# Altium footprint library PcbLib1.PcbLib: 21 footprints (part 2 of 2)
Each footprint in its own frame and in the unit in brackets; x right, y up, seen from the top. Pads: shape width x height; smd on the part's side, far side on the other; paste and mask are expansions set on the pad; w line width, h text height; cw(c..) or ccw(c..) is an arc to the next point about the centre after c.
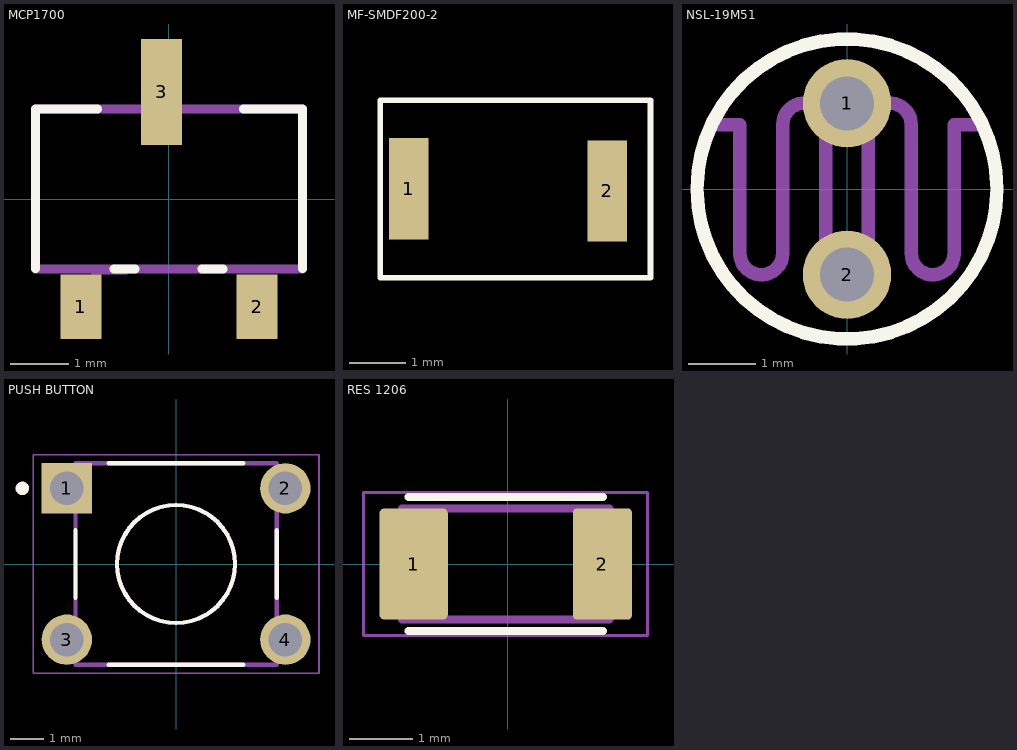
[diagram p1: the footprints below, top view; thin cyan lines are the x and y axes]

## MCP1700 [mm]
pads (3):
  rect 0.7x1.1 smd: 1(-1.5,-1.827) 2(1.5,-1.827)
  rect 0.7x1.8 smd paste-2 mask+0: 3(-0.127,1.827)
Top Overlay:
  lines w0.152: -2.272,-1.18 -2.272,1.533 -1.214,1.533 ; -0.936,-1.188 -0.578,-1.188 ; 0.564,-1.188 0.922,-1.188 ; 1.264,1.533 2.272,1.533 2.272,-1.18
Mechanical 13:
  lines w0: -1.321,-1.271 -0.711,-1.271
  lines w0.152: 2.272,-1.188 -2.272,-1.188 -2.272,1.533 2.272,1.533

## MF-SMDF200-2 [mm]
pads (2):
  rect 0.7x1.8 smd paste-2 mask+0: 1(-381.775,29.181) 2(-378.246,29.14)
Top Overlay:
  lines w0.1: -382.282,27.601 -382.282,30.56 -382.282,30.748 -377.479,30.748 -377.479,30.284 -377.479,27.601 -382.282,27.601

## NSL-19M51 [mm]
pads (2):
  round 1.308 hole 0.8: 1(0,1.27) 2(0,-1.27)
Top Overlay:
  circle w0.2: c0,0 r2.222
Mechanical 13:
  lines w0.2: -1.905,0.953 -1.587,0.953 -1.587,-0.953 ccw(c-1.27,-0.953) -0.953,-0.953 -0.953,0.953 cw(c-0.635,0.953) -0.318,0.953 -0.318,-0.953 ccw(c0,-0.953) 0.318,-0.953 0.318,0.953 cw(c0.635,0.953) 0.953,0.953 0.953,-0.953 ccw(c1.27,-0.953) 1.587,-0.953 1.587,0.953 1.905,0.953

## PUSH BUTTON [mm]
pads (4):
  rect 1.498x1.498 hole 0.99: 1(-3.25,2.25)
  round 1.498 hole 0.99: 2(3.25,2.25) 3(-3.25,-2.25) 4(3.25,-2.25)
Top Overlay:
  circle w0.127: c0,0 r1.755
  circle w0.2: c-4.572,2.25 r0.1
  lines w0.127: -2.995,-1 -2.995,1 ; -2,-2.995 2,-2.995 ; -2,2.995 2,2.995 ; 2.995,-1 2.995,1
Mechanical 13:
  circle w0.127: c0,0 r1.755
  lines w0.127: -2.995,-2.995 -2.995,2.995 2.995,2.995 2.995,-2.995 -2.995,-2.995
Mechanical 15:
  lines w0.05: -4.25,-3.25 -4.25,3.25 4.25,3.25 4.25,-3.25 -4.25,-3.25

## RES 1206 [mm]
pads (2):
  rrect14% 1.09x1.77 smd: 1(-1.502,0)
  rrect14% 0.94x1.77 smd: 2(1.503,0)
Top Overlay:
  lines w0.127: -1.587,-1.065 1.513,-1.065 ; -1.587,1.065 1.513,1.065
Mechanical 13:
  lines w0.127: -1.687,-0.88 -1.687,0.88 1.613,0.88 1.613,-0.88 -1.687,-0.88
Mechanical 15:
  lines w0.05: -2.297,-1.14 -2.297,1.14 2.223,1.14 2.223,-1.14 -2.297,-1.14